# EAGLE library part 74AC11286 (library 74ac-logic)
9-bit PARITY GENERATOR/CHECKER, bus driver
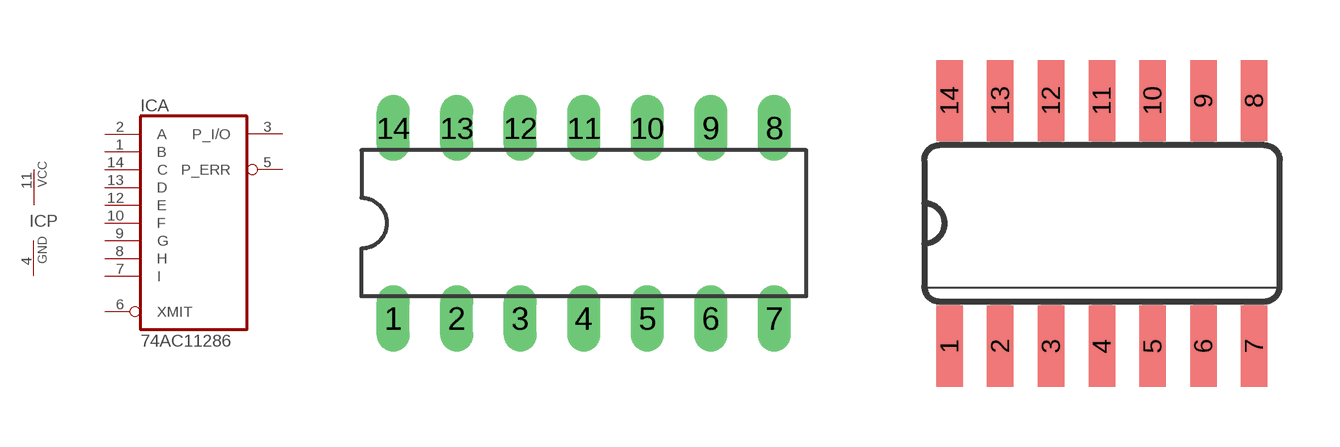
[diagram p22: symbol with the pads of DIL14; footprints DIL14, SO14]

Designator prefix IC; gates A=7411286 P=PWRN

## 74AC11286  [DIL14]
1  A:B  in
2  A:A  in
3  A:P_I/O
4  P:GND  pwr
5  A:P_ERR  out
6  A:XMIT  in
7  A:I  in
8  A:H  in
9  A:G  in
10  A:F  in
11  P:VCC  pwr
12  A:E  in
13  A:D  in
14  A:C  in

## 74AC11286D  [SO14]
Pads as for DIL14

## Footprint DIL14 (pad centres in mm)
Dual In Line Package
drill 0.813 long: 1 -7.62,-3.81; 2 -5.08,-3.81; 3 -2.54,-3.81; 4 0,-3.81; 5 2.54,-3.81; 6 5.08,-3.81; 7 7.62,-3.81; 8 7.62,3.81; 9 5.08,3.81; 10 2.54,3.81; 11 0,3.81; 12 -2.54,3.81; 13 -5.08,3.81; 14 -7.62,3.81

## Footprint SO14 (pad centres in mm)
Small Outline package 150 mil
smd 0.66 x 2.032: 1 -3.81,-3.073; 2 -2.54,-3.073; 3 -1.27,-3.073; 4 0,-3.073; 5 1.27,-3.073; 6 2.54,-3.073; 7 3.81,-3.073; 8 3.81,3.073; 9 2.54,3.073; 10 1.27,3.073; 11 0,3.073; 12 -1.27,3.073; 13 -2.54,3.073; 14 -3.81,3.073